# Altium schematic symbol library SCH - POWER - LINEAR VREG - TI TPS7A8101-Q1DRB.SchLib: 1 symbol
Pins are listed as number, name and electrical type; pins without a type are passive.

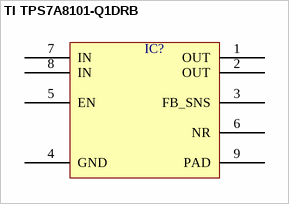
[diagram p0: symbol TI TPS7A8101-Q1DRB]

## TI TPS7A8101-Q1DRB
designator IC?  (value not drawn)
pins: 1 OUT, 2 OUT, 3 FB_SNS, 4 GND, 5 EN, 6 NR, 7 IN, 8 IN, 9 PAD